# Altium footprint library WE-MAPI.PcbLib: 6 footprints
Each footprint in its own frame and in the unit in brackets; x right, y up, seen from the top. Pads: shape width x height; smd on the part's side, far side on the other; paste and mask are expansions set on the pad; w line width, h text height; cw(c..) or ccw(c..) is an arc to the next point about the centre after c.
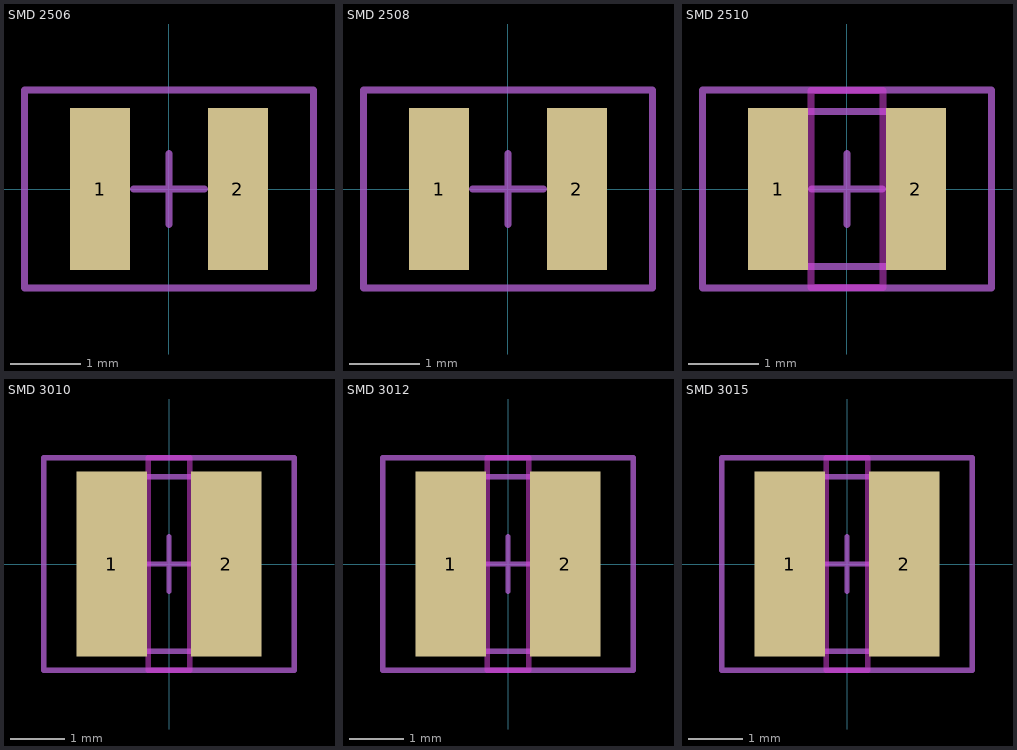
[diagram p0: the footprints below, top view; thin cyan lines are the x and y axes]

## SMD 2506 [mm] "Chip Inductor, 2-Leads, Body 2.5x2.0mm, IPC Medium Density"
height 0.6
pads (2):
  rect 0.85x2.3 smd: 1(-0.975,0) 2(0.975,0)
Mechanical 15:
  lines w0.1: -0.5,0 0.5,0 ; 0,-0.5 0,0.5 ; -2.05,-1.4 -2.05,1.4 2.05,1.4 2.05,-1.4 -2.05,-1.4

## SMD 2508 [mm] "Chip Inductor, 2-Leads, Body 2.5x2.0mm, IPC Medium Density"
height 0.8
pads (2):
  rect 0.85x2.3 smd: 1(-0.975,0) 2(0.975,0)
Mechanical 15:
  lines w0.1: -0.5,0 0.5,0 ; 0,-0.5 0,0.5 ; -2.05,-1.4 -2.05,1.4 2.05,1.4 2.05,-1.4 -2.05,-1.4

## SMD 2510 [mm] "Chip Inductor, 2-Leads, Body 2.5x2.0mm, IPC Medium Density"
height 1
pads (2):
  rect 0.85x2.3 smd: 1(-0.975,0) 2(0.975,0)
Keep-Out Layer:
  lines w0.1: -0.508,-1.397 0.508,-1.397 0.508,1.397 -0.508,1.397 -0.508,-1.397
Mechanical 13:
  lines w0.1: -1.35,-1.1 1.35,-1.1 1.35,1.1 -1.35,1.1 -1.35,-1.1
Mechanical 15:
  lines w0.1: -0.5,0 0.5,0 ; 0,-0.5 0,0.5 ; -2.05,-1.4 2.05,-1.4 2.05,1.4 -2.05,1.4 -2.05,-1.4
3D body: height 1, standoff 0, extent -1.25,-1 1.25,1

## SMD 3010 [mm] "Chip Inductor, 2-Leads, Body 3.0x3.0mm, IPC Medium Density"
height 1
pads (2):
  rect 1.3x3.4 smd: 1(-1.05,0) 2(1.05,0)
Keep-Out Layer:
  lines w0.1: -0.381,-1.95 -0.381,1.95 0.381,1.95 0.381,-1.95 -0.381,-1.95
Mechanical 13:
  lines w0.1: -1.6,-1.6 -1.6,1.6 1.6,1.6 1.6,-1.6 -1.6,-1.6
Mechanical 15:
  lines w0.1: -0.5,0 0.5,0 ; 0,-0.5 0,0.5 ; -2.3,-1.95 -2.3,1.95 2.3,1.95 2.3,-1.95 -2.3,-1.95
3D body: height 1, standoff 0, extent -1.5,-1.5 1.5,1.5

## SMD 3012 [mm] "Chip Inductor, 2-Leads, Body 3.0x3.0mm, IPC Medium Density"
height 1.2
pads (2):
  rect 1.3x3.4 smd: 1(-1.05,0) 2(1.05,0)
Keep-Out Layer:
  lines w0.1: -0.381,-1.95 -0.381,1.95 0.381,1.95 0.381,-1.95 -0.381,-1.95
Mechanical 13:
  lines w0.1: -1.6,-1.6 1.6,-1.6 1.6,1.6 -1.6,1.6 -1.6,-1.6
Mechanical 15:
  lines w0.1: -0.5,0 0.5,0 ; 0,-0.5 0,0.5 ; -2.3,-1.95 2.3,-1.95 2.3,1.95 -2.3,1.95 -2.3,-1.95
3D body: height 1.2, standoff 0, extent -1.5,-1.5 1.5,1.5

## SMD 3015 [mm] "Chip Inductor, 2-Leads, Body 3.0x3.0mm, IPC Medium Density"
height 1.5
pads (2):
  rect 1.3x3.4 smd: 1(-1.05,0) 2(1.05,0)
Keep-Out Layer:
  lines w0.1: -0.381,-1.95 0.381,-1.95 0.381,1.95 -0.381,1.95 -0.381,-1.95
Mechanical 13:
  lines w0.1: -1.6,-1.6 -1.6,1.6 1.6,1.6 1.6,-1.6 -1.6,-1.6
Mechanical 15:
  lines w0.1: -0.5,0 0.5,0 ; 0,-0.5 0,0.5 ; -2.3,-1.95 -2.3,1.95 2.3,1.95 2.3,-1.95 -2.3,-1.95
3D body: height 1.2, standoff 0, extent -1.5,-1.5 1.5,1.5